# EAGLE library part FA (library dslparts)
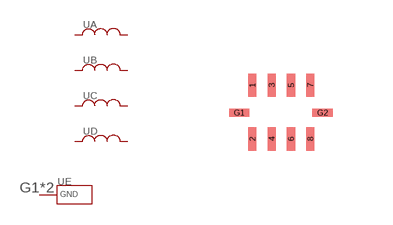
[diagram p12: symbol with the pads of FA; footprint FA]

Designator prefix -; gates A=FILTER B=FILTER C=FILTER D=FILTER E=PIN

## FA  [FA]
1  A:P$1
2  A:P$2
3  B:P$1
4  B:P$2
5  C:P$1
6  C:P$2
7  D:P$1
8  D:P$2
G1  E:GND
G2  E:GND

## Footprint FA (pad centres in mm)
smd 0.203 x 0.584: 1 -0.737,0.838; 2 -0.737,-0.508; 3 -0.254,0.838; 4 -0.254,-0.508; 5 0.229,0.838; 6 0.229,-0.508; 7 0.711,0.838; 8 0.711,-0.508
smd 0.508 x 0.203: G1 -1.067,0.152; G2 1.016,0.152